# Altium footprint library WR-TBL_Spring Clamp_7.50mm.PcbLib: 17 footprints (part 2 of 2)
Each footprint in its own frame and in the unit in brackets; x right, y up, seen from the top. Pads: shape width x height; smd on the part's side, far side on the other; paste and mask are expansions set on the pad; w line width, h text height; cw(c..) or ccw(c..) is an arc to the next point about the centre after c.
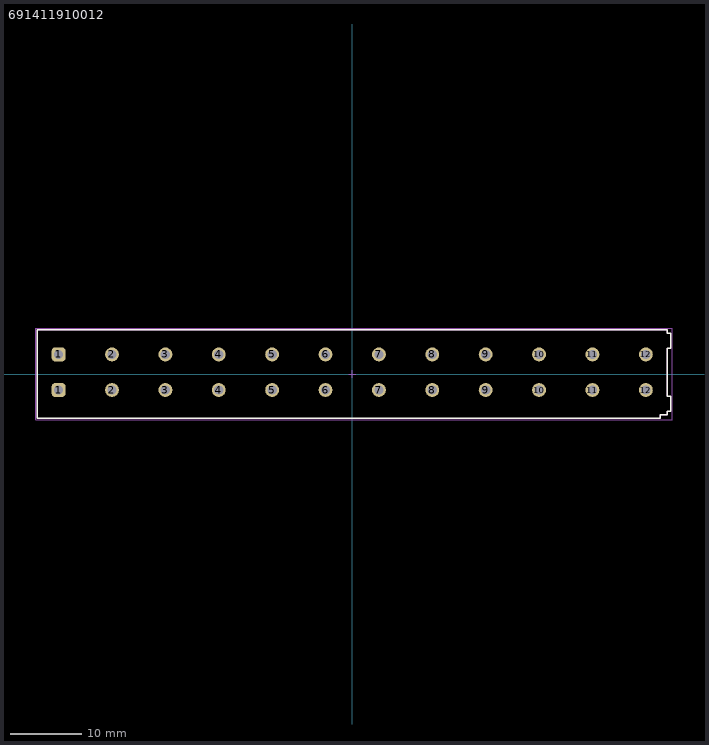
[diagram p1: the footprint, top view; thin cyan lines are the x and y axes]

## 691411910012 [mm] "7.50 mm Screwless Horizontal Entry, 12p"
height 13.9
pads (24):
  rrect50% 1.95x1.95 hole 1.3: 1(-41.25,-2.25) 1(-41.25,2.75)
  round 1.95 hole 1.3: 2(-33.75,-2.25) 2(-33.75,2.75) 3(-26.25,-2.25) 3(-26.25,2.75) 4(-18.75,-2.25) 4(-18.75,2.75) 5(-11.25,-2.25) 5(-11.25,2.75) 6(-3.75,-2.25) 6(-3.75,2.75) 7(3.75,-2.25) 7(3.75,2.75) 8(11.25,-2.25) 8(11.25,2.75) 9(18.75,-2.25) 9(18.75,2.75) 10(26.25,-2.25) 10(26.25,2.75) 11(33.75,-2.25) 11(33.75,2.75) 12(41.25,-2.25) 12(41.25,2.75)
Top Overlay:
  lines w0.2: -44.25,-6.25 -44.25,6.25 44.25,6.25 44.25,5.7 44.75,5.7 44.75,3.6 44.25,3.6 44.25,-3.1 44.75,-3.1 44.75,-5.2 44.25,-5.2 44.25,-5.75 43.25,-5.75 43.25,-6.25 -44.25,-6.25
Top Assembly:
  lines w0.1: -44.25,-6.25 43.25,-6.25 43.25,-5.75 44.25,-5.75 44.25,-5.2 44.75,-5.2 44.75,-3.1 44.25,-3.1 44.25,3.6 44.75,3.6 44.75,5.7 44.25,5.7 44.25,6.25 -44.25,6.25 -44.25,-6.25
Top Designator:
  text ".Designator" at -3.647,-0.357 h1
Top 3D Body:
  lines w0.1: -44.25,-6.25 -44.25,6.25 44.25,6.25 44.25,5.7 44.75,5.7 44.75,3.6 44.25,3.6 44.25,-3.1 44.75,-3.1 44.75,-5.2 44.25,-5.2 44.25,-5.75 43.25,-5.75 43.25,-6.25 -44.25,-6.25
Top Courtyard:
  lines w0.05: -44.45,-6.45 -44.45,6.45 44.95,6.45 44.95,-6.45 -44.45,-6.45
Top Component Center:
  lines w0.1: -0.5,0 0.5,0 ; 0,-0.5 0,0.5
3D body "691411910012.stp": height 13.95, standoff -3.55, extent -44.25,-6.25 44.75,6.25